# Altium schematic symbol library 7Sigma.Schlib: 1 symbol
Pins are listed as number, name and electrical type; pins without a type are passive.

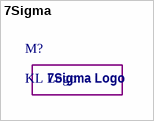
[diagram p0: symbol 7Sigma]

## 7Sigma
designator M?, comment KL Logo  (no BOM)
text: 7Sigma Logo